# EAGLE library part TPA2005D1DGN (library timearc)
1.4-W MONO FILTER-FREE CLASS-D AUDIO POWER AMPLIFIER
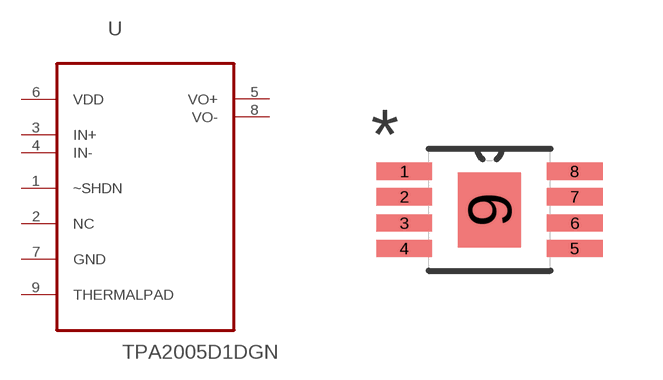
[diagram p2: symbol with the pads of SOP65P488X107-9N; footprint SOP65P488X107-9N]

Designator prefix U

## TPA2005D1DGN (MPN: TPA2005D1DGN; OC_FARNELL: 2075395; OC_NEWARK: 82T3159; PACKAGE: MSOP-8; SUPPLIER: Texas Instruments)  [SOP65P488X107-9N]
1  ~SHDN  pas
2  NC  nc
3  IN+  in
4  IN-  in
5  VO+  out
6  VDD  pwr
7  GND  pas
8  VO-  out
9  THERMALPAD  pas

## Footprint SOP65P488X107-9N (pad centres in mm)
smd 1.397 x 0.432: 1 -2.134,0.965; 2 -2.134,0.33; 3 -2.134,-0.33; 4 -2.134,-0.965; 5 2.134,-0.965; 6 2.134,-0.33; 7 2.134,0.33; 8 2.134,0.965
smd 1.575 x 1.88: 9 0,0